# Altium footprint library PCB - LEADED - MSOP8_RM_8.PCBLIB: 1 footprints
Each footprint in its own frame and in the unit in brackets; x right, y up, seen from the top. Pads: shape width x height; smd on the part's side, far side on the other; paste and mask are expansions set on the pad; w line width, h text height; cw(c..) or ccw(c..) is an arc to the next point about the centre after c.
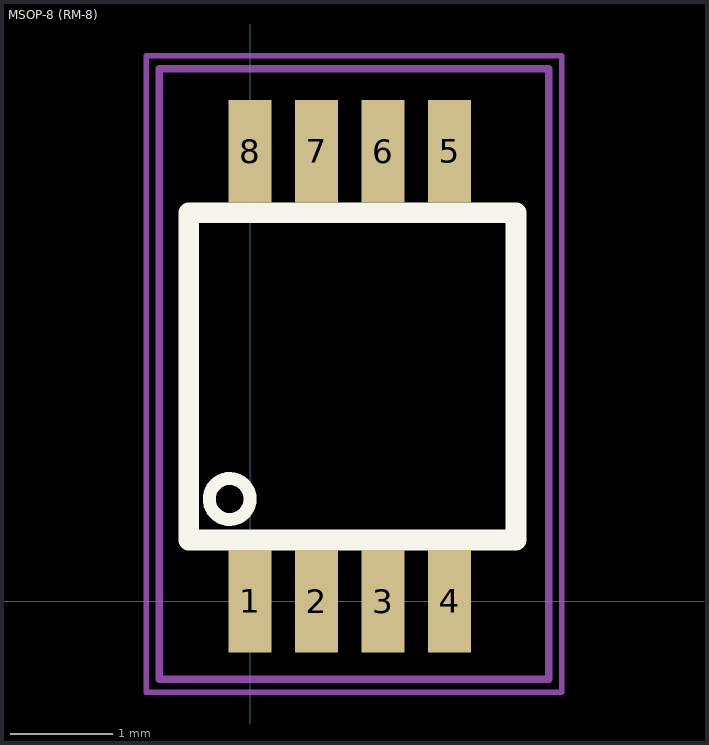
[diagram p0: the footprint, top view; thin cyan lines are the x and y axes]

## MSOP-8 (RM-8) [mm]
height 1.1
pads (8):
  rect 0.42x1 smd: 1(0,0) 2(0.65,0) 3(1.3,0) 4(1.95,0) 5(1.95,4.4) 6(1.3,4.4) 7(0.65,4.4) 8(0,4.4)
Top Overlay:
  circle w0.127: c-0.2,1 r0.2
  lines w0.203: -0.6,0.6 -0.6,3.8 2.6,3.8 2.6,0.6 -0.6,0.6
Top Assembly:
  lines w0.076: -0.889,-0.762 -0.889,5.207 2.921,5.207 2.921,-0.762 -0.889,-0.762
  text ".Designator" at 0.127,5.588 h1.52
Top Courtyard (Mech7):
  lines w0.051: -1.016,-0.889 3.048,-0.889 3.048,5.334 -1.016,5.334 -1.016,-0.889
3D body "MSOP-8.STEP": height 1.15, standoff 0, extent -0.509,-0.242 2.491,4.658